# Altium integrated library TI Interface Line Receiver.IntLib: 131 symbols (part 2 of 3)
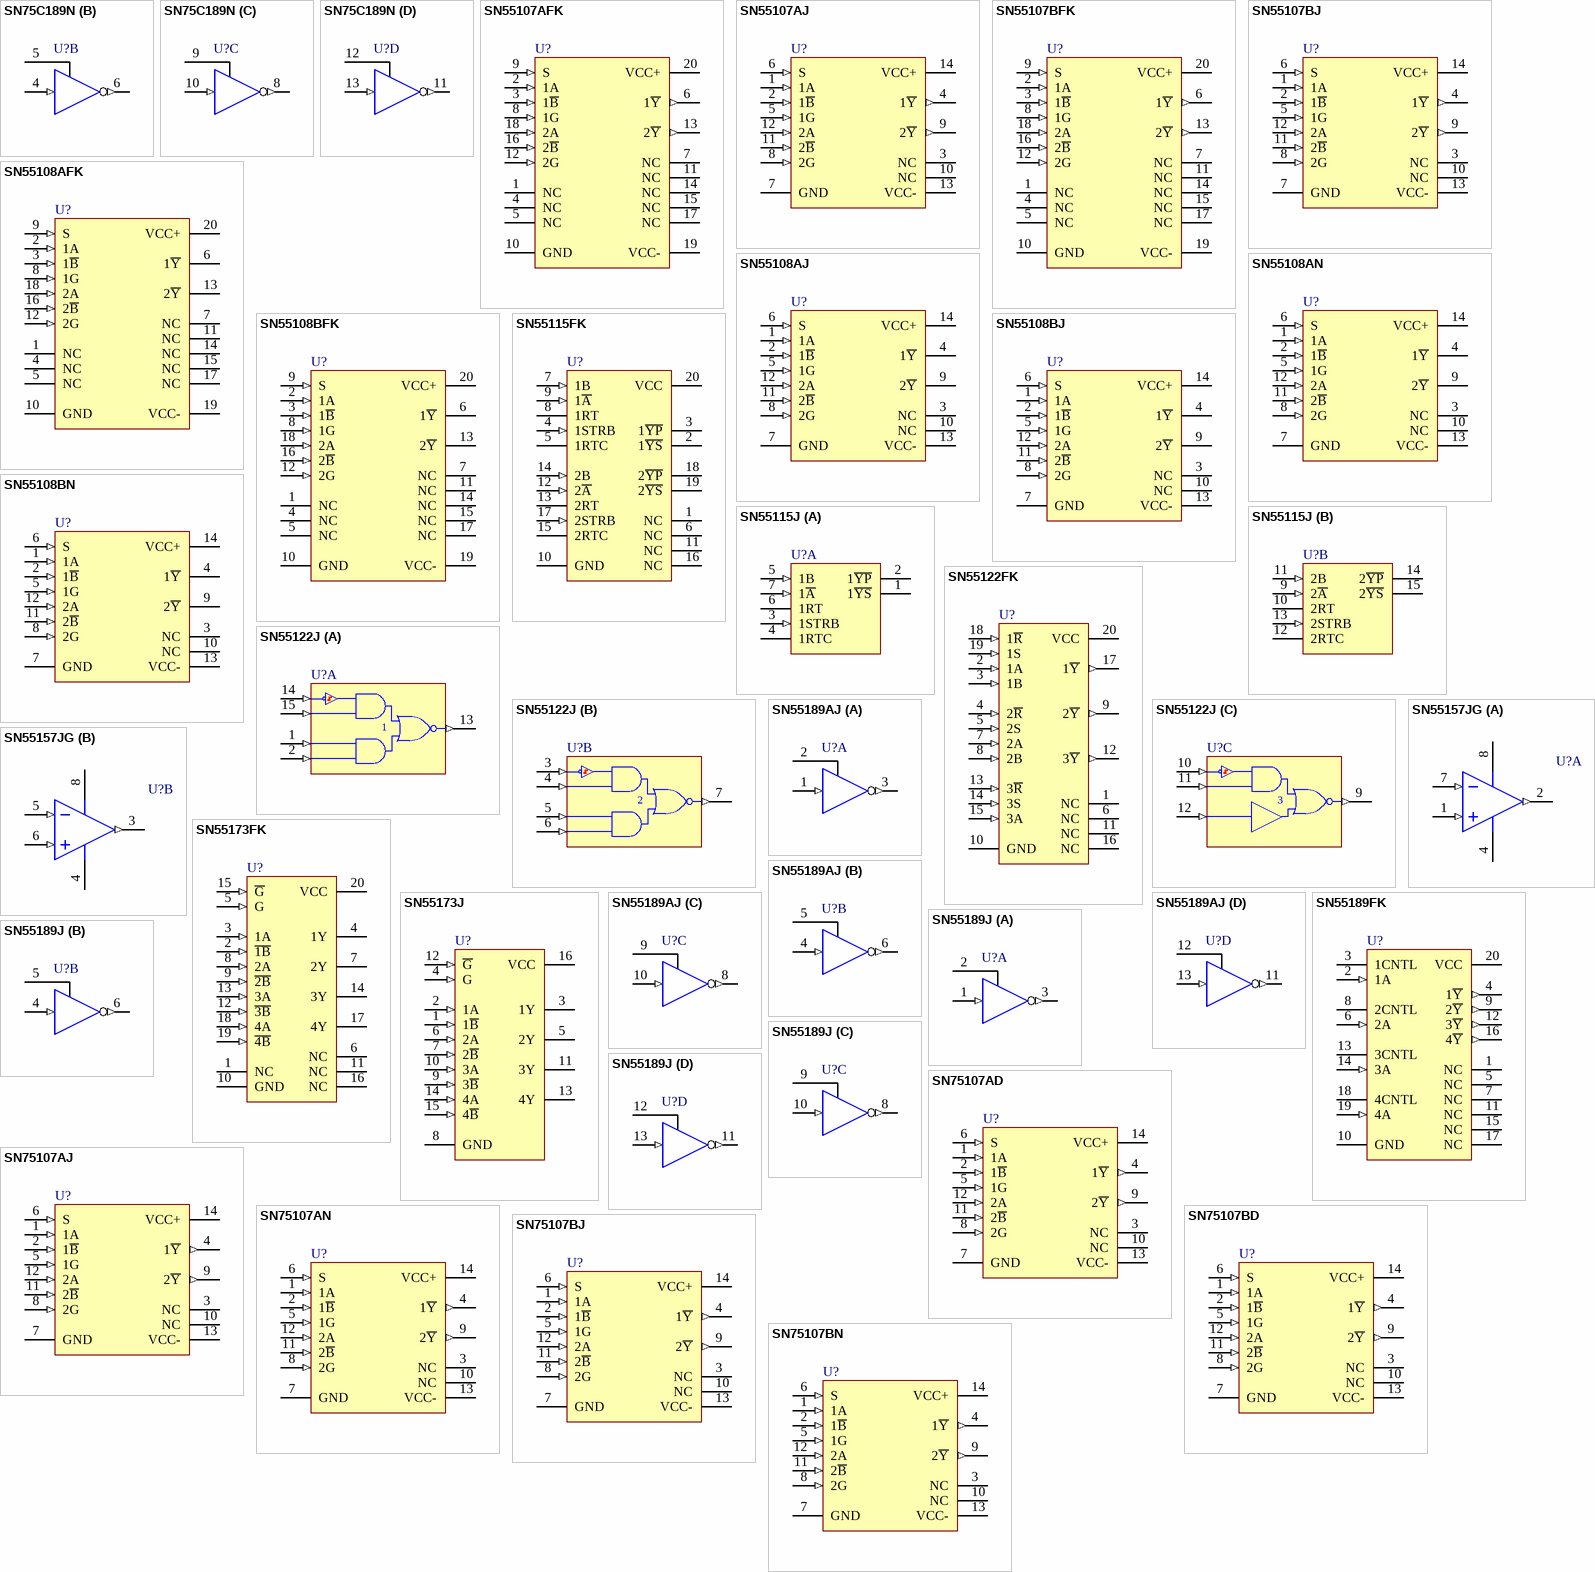
[diagram p7: symbols SN75C189N to SN75107BN]

## SN55108AN
designator U?
Dual Line Receiver; Published: 15-May-2002; LatestRevisionDate: 29-May-2009; LatestRevisionNote: Component Body Added.; DatasheetVersion: May-1990; PackageVersion: Oct-1995; PackageReference: N014; Publisher: Altium Limited; PackageDescription: DIP, 14-Pin, Row Spacing 7.62 mm, Pitch 2.54 mm; ComponentLink1Description: Manufacturer Link; ComponentLink1URL: http://www.ti.com/
footprint N014 (DIP, 14-Leads, Row Spacing 7.62mm, Pitch 2.54mm, Body 19.31x6.35mm)
3D model N014 (DIP, 14-Pin, Row Spacing 7.62 mm, Pitch 2.54 mm)
pins: 1 1A (in), 2 1~{B} (in), 3 NC, 4 1~{Y} (oc), 5 1G (in), 6 S (in), 7 GND (power), 8 2G (in), 9 2~{Y} (oc), 10 NC, 11 2~{B} (in), 12 2A (in), 13 VCC- (power), 14 VCC+ (power)

## SN55108BFK
designator U?
Dual Line Receiver; Published: 15-May-2002; LatestRevisionDate: 29-May-2009; LatestRevisionNote: IPC-7351 Footprint Added.; DatasheetVersion: May-1990; PackageVersion: 1998; PackageReference: FK020; Publisher: Altium Limited; PackageDescription: 20-Pin Leadless Chip Carrier 1.27 mm Pitch; Code_JEDEC: MS-004-CB; ComponentLink1Description: Manufacturer Link; ComponentLink1URL: http://www.ti.com/
footprint FK020_N (Leadless Chip Carrier, 20-Leads, Body 8.9x8.9mm, Pitch 1.27mm, IPC Medium Density)
footprint FK020_L (Leadless Chip Carrier, 20-Leads, Body 8.9x8.9mm, Pitch 1.27mm, IPC High Density)
footprint FK020_M (Leadless Chip Carrier, 20-Leads, Body 8.9x8.9mm, Pitch 1.27mm, IPC Low Density)
pins: 1 NC, 2 1A (in), 3 1~{B} (in), 4 NC, 5 NC, 6 1~{Y} (oc), 7 NC, 8 1G (in), 9 S (in), 10 GND (power), 11 NC, 12 2G (in), 13 2~{Y} (oc), 14 NC, 15 NC, 16 2~{B} (in), 17 NC, 18 2A (in), 19 VCC- (power), 20 VCC+ (power)

## SN55108BJ
designator U?
Dual Line Receiver; Published: 15-May-2002; LatestRevisionDate: 29-May-2009; LatestRevisionNote: Component Body Added.; DatasheetVersion: May-1990; PackageVersion: Jun-1999; PackageReference: J014; Publisher: Altium Limited; PackageDescription: DIP, Ceramic, 14-Pin, Row Spacing 7.62 mm, Pitch 2.54 mm; ComponentLink1Description: Manufacturer Link; ComponentLink1URL: http://www.ti.com/
footprint J014 (DIP, 14-Leads, Row Spacing 7.62mm, Pitch 2.54mm, Body 19.56x6.92mm)
3D model J014 (DIP, Ceramic, 14-Pin, Row Spacing 7.62 mm, Pitch 2.54 mm)
pins: 1 1A (in), 2 1~{B} (in), 3 NC, 4 1~{Y} (oc), 5 1G (in), 6 S (in), 7 GND (power), 8 2G (in), 9 2~{Y} (oc), 10 NC, 11 2~{B} (in), 12 2A (in), 13 VCC- (power), 14 VCC+ (power)

## SN55108BN
designator U?
Dual Line Receiver; Published: 15-May-2002; LatestRevisionDate: 29-May-2009; LatestRevisionNote: Component Body Added.; DatasheetVersion: May-1990; PackageVersion: Oct-1995; PackageReference: N014; Publisher: Altium Limited; PackageDescription: DIP, 14-Pin, Row Spacing 7.62 mm, Pitch 2.54 mm; ComponentLink1Description: Manufacturer Link; ComponentLink1URL: http://www.ti.com/
footprint N014 (DIP, 14-Leads, Row Spacing 7.62mm, Pitch 2.54mm, Body 19.31x6.35mm)
3D model N014 (DIP, 14-Pin, Row Spacing 7.62 mm, Pitch 2.54 mm)
pins: 1 1A (in), 2 1~{B} (in), 3 NC, 4 1~{Y} (oc), 5 1G (in), 6 S (in), 7 GND (power), 8 2G (in), 9 2~{Y} (oc), 10 NC, 11 2~{B} (in), 12 2A (in), 13 VCC- (power), 14 VCC+ (power)

## SN55115FK
designator U?
Dual Differential Line Receivers; Published: 15-May-2002; LatestRevisionDate: 29-May-2009; LatestRevisionNote: IPC-7351 Footprint Added.; DatasheetVersion: Oct-1986; PackageVersion: 1998; PackageReference: FK020; Publisher: Altium Limited; PackageDescription: 20-Pin Leadless Chip Carrier 1.27 mm Pitch; Code_JEDEC: MS-004-CB; ComponentLink1Description: Manufacturer Link; ComponentLink1URL: http://www.ti.com/
footprint FK020_N (Leadless Chip Carrier, 20-Leads, Body 8.9x8.9mm, Pitch 1.27mm, IPC Medium Density)
footprint FK020_L (Leadless Chip Carrier, 20-Leads, Body 8.9x8.9mm, Pitch 1.27mm, IPC High Density)
footprint FK020_M (Leadless Chip Carrier, 20-Leads, Body 8.9x8.9mm, Pitch 1.27mm, IPC Low Density)
pins: 1 NC, 2 1~{YS} (oc), 3 1~{YP} (oe), 4 1STRB (in), 5 1RTC, 6 NC, 7 1B (in), 8 1RT, 9 1~{A} (in), 10 GND (power), 11 NC, 12 2~{A} (in), 13 2RT, 14 2B (in), 15 2RTC, 16 NC, 17 2STRB (in), 18 2~{YP} (oe), 19 2~{YS} (oc), 20 VCC (power)

## SN55115J
designator U?
Dual Differential Line Receivers; Published: 15-May-2002; LatestRevisionDate: 29-May-2009; LatestRevisionNote: Component Body Added.; DatasheetVersion: Oct-1986; PackageVersion: Jun-1999; PackageReference: J016; Publisher: Altium Limited; PackageDescription: DIP, Ceramic, 16-Pin, Row Spacing 7.62 mm, Pitch 2.54 mm; ComponentLink1Description: Manufacturer Link; ComponentLink1URL: http://www.ti.com/; ComponentLink2Description: Datasheet; ComponentLink2URL: http://www-s.ti.com/sc/ds/sn55115.pdf
footprint J016 (DIP, 16-Leads, Row Spacing 7.62mm, Pitch 2.54mm, Body 19.56x6.92mm)
3D model J016 (DIP, Ceramic, 16-Pin, Row Spacing 7.62 mm, Pitch 2.54 mm)
pins on every part: 8 GND (power) hidden to GND, 16 VCC (power) hidden to VCC
part A pins: 1 1~{YS} (oc), 2 1~{YP} (oe), 3 1STRB (in), 4 1RTC, 5 1B (in), 6 1RT, 7 1~{A} (in)
part B pins: 9 2~{A} (in), 10 2RT, 11 2B (in), 12 2RTC, 13 2STRB (in), 14 2~{YP} (oe), 15 2~{YS} (oc)

## SN55122FK
designator U?
Triple Line Receiver; Published: 15-May-2002; LatestRevisionDate: 29-May-2009; LatestRevisionNote: IPC-7351 Footprint Added.; DatasheetVersion: Sep-1986; PackageVersion: 1998; PackageReference: FK020; Publisher: Altium Limited; PackageDescription: 20-Pin Leadless Chip Carrier 1.27 mm Pitch; Code_JEDEC: MS-004-CB; ComponentLink1Description: Manufacturer Link; ComponentLink1URL: http://www.ti.com/
footprint FK020_N (Leadless Chip Carrier, 20-Leads, Body 8.9x8.9mm, Pitch 1.27mm, IPC Medium Density)
footprint FK020_L (Leadless Chip Carrier, 20-Leads, Body 8.9x8.9mm, Pitch 1.27mm, IPC High Density)
footprint FK020_M (Leadless Chip Carrier, 20-Leads, Body 8.9x8.9mm, Pitch 1.27mm, IPC Low Density)
pins: 1 NC, 2 1A (in), 3 1B (in), 4 2~{R} (in), 5 2S (in), 6 NC, 7 2A (in), 8 2B (in), 9 2~{Y} (out), 10 GND (power), 11 NC, 12 3~{Y} (out), 13 3~{R} (in), 14 3S (in), 15 3A (in), 16 NC, 17 1~{Y} (out), 18 1~{R} (in), 19 1S (in), 20 VCC (power)

## SN55122J
designator U?
Triple Line Receiver; ComponentAvailability: Obsolete; Published: 15-May-2002; LatestRevisionDate: 29-May-2009; LatestRevisionNote: Component Body Added.; DatasheetVersion: Sep-1986; PackageVersion: Jun-1999; PackageReference: J016; Publisher: Altium Limited; PackageDescription: DIP, Ceramic, 16-Pin, Row Spacing 7.62 mm, Pitch 2.54 mm; ComponentLink1Description: Manufacturer Link; ComponentLink1URL: http://www.ti.com/; ComponentLink2Description: Datasheet; ComponentLink2URL: http://www-s.ti.com/sc/ds/sn55122.pdf
footprint J016 (DIP, 16-Leads, Row Spacing 7.62mm, Pitch 2.54mm, Body 19.56x6.92mm)
3D model J016 (DIP, Ceramic, 16-Pin, Row Spacing 7.62 mm, Pitch 2.54 mm)
pins on every part: 8 GND (power) hidden to GND, 16 VCC (power) hidden to VCC
part A pins: 1 A (in), 2 B (in), 13 ~{Y} (out), 14 ~{R} (in), 15 S (in)
part B pins: 3 ~{R} (in), 4 S (in), 5 A (in), 6 B (in), 7 ~{Y} (out)
part C pins: 9 ~{Y} (out), 10 ~{R} (in), 11 S (in), 12 A (in)

## SN55157JG
designator U?
Dual Differential Line Receiver; Published: 15-May-2002; LatestRevisionDate: 29-May-2009; LatestRevisionNote: Component Body Added.; DatasheetVersion: Sep-1986; PackageVersion: Jan-1995; PackageReference: JG008; Publisher: Altium Limited; PackageDescription: DIP, Ceramic, 8-Pin, Row Spacing 7.62 mm, Pitch 2.54 mm; ComponentLink1Description: Manufacturer Link; ComponentLink1URL: http://www.ti.com/
footprint JG008 (DIP, 8-Leads, Row Spacing 7.62mm, Pitch 2.54mm, Body 9.58x6.67mm)
3D model JG008 (DIP, Ceramic, 8-Pin, Row Spacing 7.62 mm, Pitch 2.54 mm)
pins on every part: 4 GND (power), 8 VCC (power)
part A pins: 1 IN+ (in), 2 OUT (out), 7 IN- (in)
part B pins: 3 OUT (out), 5 IN- (in), 6 IN+ (in)

## SN55173FK
designator U?
Quadruple Differential Line Driver; Note: Inputs have hysteresis (50mV typical).; Published: 15-May-2002; LatestRevisionDate: 29-May-2009; LatestRevisionNote: IPC-7351 Footprint Added.; DatasheetVersion: Dec-1988; PackageVersion: 1998; PackageReference: FK020; Publisher: Altium Limited; PackageDescription: 20-Pin Leadless Chip Carrier 1.27 mm Pitch; Code_JEDEC: MS-004-CB; ComponentLink1Description: Manufacturer Link; ComponentLink1URL: http://www.ti.com/
footprint FK020_N (Leadless Chip Carrier, 20-Leads, Body 8.9x8.9mm, Pitch 1.27mm, IPC Medium Density)
footprint FK020_L (Leadless Chip Carrier, 20-Leads, Body 8.9x8.9mm, Pitch 1.27mm, IPC High Density)
footprint FK020_M (Leadless Chip Carrier, 20-Leads, Body 8.9x8.9mm, Pitch 1.27mm, IPC Low Density)
pins: 1 NC, 2 ~{1B} (in), 3 1A (in), 4 1Y (hiz), 5 G (in), 6 NC, 7 2Y (hiz), 8 2A (in), 9 ~{2B} (in), 10 GND (power), 11 NC, 12 ~{3B} (in), 13 3A (in), 14 3Y (hiz), 15 ~{G} (in), 16 NC, 17 4Y (hiz), 18 4A (in), 19 ~{4B} (in), 20 VCC (power)

## SN55173J
designator U?
Quadruple Differential Line Driver; Note: Inputs have hysteresis (50mV typical).; Published: 15-May-2002; LatestRevisionDate: 29-May-2009; LatestRevisionNote: Component Body Added.; DatasheetVersion: Dec-1988; PackageVersion: Jun-1999; PackageReference: J016; Publisher: Altium Limited; PackageDescription: DIP, Ceramic, 16-Pin, Row Spacing 7.62 mm, Pitch 2.54 mm; ComponentLink1Description: Manufacturer Link; ComponentLink1URL: http://www.ti.com/; ComponentLink2Description: Datasheet; ComponentLink2URL: http://www-s.ti.com/sc/ds/sn55173.pdf
footprint J016 (DIP, 16-Leads, Row Spacing 7.62mm, Pitch 2.54mm, Body 19.56x6.92mm)
3D model J016 (DIP, Ceramic, 16-Pin, Row Spacing 7.62 mm, Pitch 2.54 mm)
pins: 1 1~{B} (in), 2 1A (in), 3 1Y (hiz), 4 G (in), 5 2Y (hiz), 6 2A (in), 7 2~{B} (in), 8 GND (power), 9 3~{B} (in), 10 3A (in), 11 3Y (hiz), 12 ~{G} (in), 13 4Y (hiz), 14 4A (in), 15 4~{B} (in), 16 VCC (power)

## SN55189AJ
designator U?
Quadruple Line Receiver; Published: 15-May-2002; LatestRevisionDate: 29-May-2009; LatestRevisionNote: Component Body Added.; DatasheetVersion: May-1990; PackageVersion: Jun-1999; PackageReference: J014; Publisher: Altium Limited; PackageDescription: DIP, Ceramic, 14-Pin, Row Spacing 7.62 mm, Pitch 2.54 mm; ComponentLink1Description: Manufacturer Link; ComponentLink1URL: http://www.ti.com/; ComponentLink2Description: Datasheet; ComponentLink2URL: http://www-s.ti.com/sc/ds/sn55189.pdf
footprint J014 (DIP, 14-Leads, Row Spacing 7.62mm, Pitch 2.54mm, Body 19.56x6.92mm)
3D model J014 (DIP, Ceramic, 14-Pin, Row Spacing 7.62 mm, Pitch 2.54 mm)
pins on every part: 7 GND (power) hidden to GND, 14 VCC+ (power) hidden to VCC+
part A pins: 1 A (in), 2 CNTL, 3 ~{Y} (out)
part B pins: 4 A (in), 5 CNTL, 6 ~{Y} (out)
part C pins: 8 ~{Y} (out), 9 CNTL, 10 A (in)
part D pins: 11 ~{Y} (out), 12 CNTL, 13 A (in)

## SN55189FK
designator U?
Quadruple Line Receiver; Note: Inputs have build in Hysteresis (Double Thresholds); Published: 15-May-2002; LatestRevisionDate: 29-May-2009; LatestRevisionNote: IPC-7351 Footprint Added.; DatasheetVersion: May-1990; PackageVersion: 1998; PackageReference: FK020; Publisher: Altium Limited; PackageDescription: 20-Pin Leadless Chip Carrier 1.27 mm Pitch; Code_JEDEC: MS-004-CB; ComponentLink1Description: Manufacturer Link; ComponentLink1URL: http://www.ti.com/
footprint FK020_N (Leadless Chip Carrier, 20-Leads, Body 8.9x8.9mm, Pitch 1.27mm, IPC Medium Density)
footprint FK020_L (Leadless Chip Carrier, 20-Leads, Body 8.9x8.9mm, Pitch 1.27mm, IPC High Density)
footprint FK020_M (Leadless Chip Carrier, 20-Leads, Body 8.9x8.9mm, Pitch 1.27mm, IPC Low Density)
pins: 1 NC, 2 1A (in), 3 1CNTL, 4 1~{Y} (out), 5 NC, 6 2A (in), 7 NC, 8 2CNTL, 9 2~{Y} (out), 10 GND (power), 11 NC, 12 3~{Y} (out), 13 3CNTL, 14 3A (in), 15 NC, 16 4~{Y} (out), 17 NC, 18 4CNTL, 19 4A (in), 20 VCC (power)

## SN55189J
designator U?
Quadruple Line Receiver; ComponentAvailability: Obsolete; Published: 15-May-2002; LatestRevisionDate: 29-May-2009; LatestRevisionNote: Component Body Added.; DatasheetVersion: May-1990; PackageVersion: Jun-1999; PackageReference: J014; Publisher: Altium Limited; PackageDescription: DIP, Ceramic, 14-Pin, Row Spacing 7.62 mm, Pitch 2.54 mm; ComponentLink1Description: Manufacturer Link; ComponentLink1URL: http://www.ti.com/; ComponentLink2Description: Datasheet; ComponentLink2URL: http://www-s.ti.com/sc/ds/sn55189.pdf
footprint J014 (DIP, 14-Leads, Row Spacing 7.62mm, Pitch 2.54mm, Body 19.56x6.92mm)
3D model J014 (DIP, Ceramic, 14-Pin, Row Spacing 7.62 mm, Pitch 2.54 mm)
pins on every part: 7 GND (power) hidden to GND, 14 VCC+ (power) hidden to VCC+
part A pins: 1 A (in), 2 CNTL, 3 ~{Y} (out)
part B pins: 4 A (in), 5 CNTL, 6 ~{Y} (out)
part C pins: 8 ~{Y} (out), 9 CNTL, 10 A (in)
part D pins: 11 ~{Y} (out), 12 CNTL, 13 A (in)

## SN75107AD
designator U?
Dual Line Receiver; Published: 15-May-2002; LatestRevisionDate: 13-Apr-2006; LatestRevisionNote: IPC-7351 Footprint Added.; DatasheetVersion: May-1990; PackageVersion: Nov-2006; PackageReference: D014; Publisher: Altium Limited; PackageDescription: 14-Pin Small Outline Integrated Circuit 1.27 mm Pitch; Code_JEDEC: MS-012-AB; Code_IPC: SOIC127P600-14; ComponentLink1Description: Manufacturer Link; ComponentLink1URL: http://www.ti.com/; ComponentLink2Description: Datasheet; ComponentLink2URL: http://www-s.ti.com/sc/ds/sn55107a.pdf
footprint D014_N (SOIC, 14-Leads, Body 8.7x3.9mm, Pitch 1.27mm, IPC Medium Density)
footprint D014_L (SOIC, 14-Leads, Body 8.7x3.9mm, Pitch 1.27mm, IPC High Density)
footprint D014_M (SOIC, 14-Leads, Body 8.7x3.9mm, Pitch 1.27mm, IPC Low Density)
3D model D014 (14-Pin Small Outline Integrated Circuit 1.27 mm Pitch)
pins: 1 1A (in), 2 1~{B} (in), 3 NC, 4 1~{Y} (out), 5 1G (in), 6 S (in), 7 GND (power), 8 2G (in), 9 2~{Y} (out), 10 NC, 11 2~{B} (in), 12 2A (in), 13 VCC- (power), 14 VCC+ (power)

## SN75107AJ
designator U?
Dual Line Receiver; Published: 15-May-2002; LatestRevisionDate: 29-May-2009; LatestRevisionNote: Component Body Added.; DatasheetVersion: May-1990; PackageVersion: Jun-1999; PackageReference: J014; Publisher: Altium Limited; PackageDescription: DIP, Ceramic, 14-Pin, Row Spacing 7.62 mm, Pitch 2.54 mm; ComponentLink1Description: Manufacturer Link; ComponentLink1URL: http://www.ti.com/
footprint J014 (DIP, 14-Leads, Row Spacing 7.62mm, Pitch 2.54mm, Body 19.56x6.92mm)
3D model J014 (DIP, Ceramic, 14-Pin, Row Spacing 7.62 mm, Pitch 2.54 mm)
pins: 1 1A (in), 2 1~{B} (in), 3 NC, 4 1~{Y} (out), 5 1G (in), 6 S (in), 7 GND (power), 8 2G (in), 9 2~{Y} (out), 10 NC, 11 2~{B} (in), 12 2A (in), 13 VCC- (power), 14 VCC+ (power)

## SN75107AN
designator U?
Dual Line Receiver; Published: 15-May-2002; LatestRevisionDate: 29-May-2009; LatestRevisionNote: Component Body Added.; DatasheetVersion: May-1990; PackageVersion: Oct-1995; PackageReference: N014; Publisher: Altium Limited; PackageDescription: DIP, 14-Pin, Row Spacing 7.62 mm, Pitch 2.54 mm; ComponentLink1Description: Manufacturer Link; ComponentLink1URL: http://www.ti.com/; ComponentLink2Description: Datasheet; ComponentLink2URL: http://www-s.ti.com/sc/ds/sn55107a.pdf
footprint N014 (DIP, 14-Leads, Row Spacing 7.62mm, Pitch 2.54mm, Body 19.31x6.35mm)
3D model N014 (DIP, 14-Pin, Row Spacing 7.62 mm, Pitch 2.54 mm)
pins: 1 1A (in), 2 1~{B} (in), 3 NC, 4 1~{Y} (out), 5 1G (in), 6 S (in), 7 GND (power), 8 2G (in), 9 2~{Y} (out), 10 NC, 11 2~{B} (in), 12 2A (in), 13 VCC- (power), 14 VCC+ (power)

## SN75107BD
designator U?
Dual Line Receiver; Published: 15-May-2002; LatestRevisionDate: 13-Apr-2006; LatestRevisionNote: IPC-7351 Footprint Added.; DatasheetVersion: May-1990; PackageVersion: Nov-2006; PackageReference: D014; Publisher: Altium Limited; PackageDescription: 14-Pin Small Outline Integrated Circuit 1.27 mm Pitch; Code_JEDEC: MS-012-AB; Code_IPC: SOIC127P600-14; ComponentLink1Description: Manufacturer Link; ComponentLink1URL: http://www.ti.com/; ComponentLink2Description: Datasheet; ComponentLink2URL: http://www-s.ti.com/sc/ds/sn55107a.pdf
footprint D014_N (SOIC, 14-Leads, Body 8.7x3.9mm, Pitch 1.27mm, IPC Medium Density)
footprint D014_L (SOIC, 14-Leads, Body 8.7x3.9mm, Pitch 1.27mm, IPC High Density)
footprint D014_M (SOIC, 14-Leads, Body 8.7x3.9mm, Pitch 1.27mm, IPC Low Density)
3D model D014 (14-Pin Small Outline Integrated Circuit 1.27 mm Pitch)
pins: 1 1A (in), 2 1~{B} (in), 3 NC, 4 1~{Y} (out), 5 1G (in), 6 S (in), 7 GND (power), 8 2G (in), 9 2~{Y} (out), 10 NC, 11 2~{B} (in), 12 2A (in), 13 VCC- (power), 14 VCC+ (power)

## SN75107BJ
designator U?
Dual Line Receiver; Published: 15-May-2002; LatestRevisionDate: 29-May-2009; LatestRevisionNote: Component Body Added.; DatasheetVersion: May-1990; PackageVersion: Jun-1999; PackageReference: J014; Publisher: Altium Limited; PackageDescription: DIP, Ceramic, 14-Pin, Row Spacing 7.62 mm, Pitch 2.54 mm; ComponentLink1Description: Manufacturer Link; ComponentLink1URL: http://www.ti.com/
footprint J014 (DIP, 14-Leads, Row Spacing 7.62mm, Pitch 2.54mm, Body 19.56x6.92mm)
3D model J014 (DIP, Ceramic, 14-Pin, Row Spacing 7.62 mm, Pitch 2.54 mm)
pins: 1 1A (in), 2 1~{B} (in), 3 NC, 4 1~{Y} (out), 5 1G (in), 6 S (in), 7 GND (power), 8 2G (in), 9 2~{Y} (out), 10 NC, 11 2~{B} (in), 12 2A (in), 13 VCC- (power), 14 VCC+ (power)

## SN75107BN
designator U?
Dual Line Receiver; Published: 15-May-2002; LatestRevisionDate: 29-May-2009; LatestRevisionNote: Component Body Added.; DatasheetVersion: May-1990; PackageVersion: Oct-1995; PackageReference: N014; Publisher: Altium Limited; PackageDescription: DIP, 14-Pin, Row Spacing 7.62 mm, Pitch 2.54 mm; ComponentLink1Description: Manufacturer Link; ComponentLink1URL: http://www.ti.com/; ComponentLink2Description: Datasheet; ComponentLink2URL: http://www-s.ti.com/sc/ds/sn55107a.pdf
footprint N014 (DIP, 14-Leads, Row Spacing 7.62mm, Pitch 2.54mm, Body 19.31x6.35mm)
3D model N014 (DIP, 14-Pin, Row Spacing 7.62 mm, Pitch 2.54 mm)
pins: 1 1A (in), 2 1~{B} (in), 3 NC, 4 1~{Y} (out), 5 1G (in), 6 S (in), 7 GND (power), 8 2G (in), 9 2~{Y} (out), 10 NC, 11 2~{B} (in), 12 2A (in), 13 VCC- (power), 14 VCC+ (power)

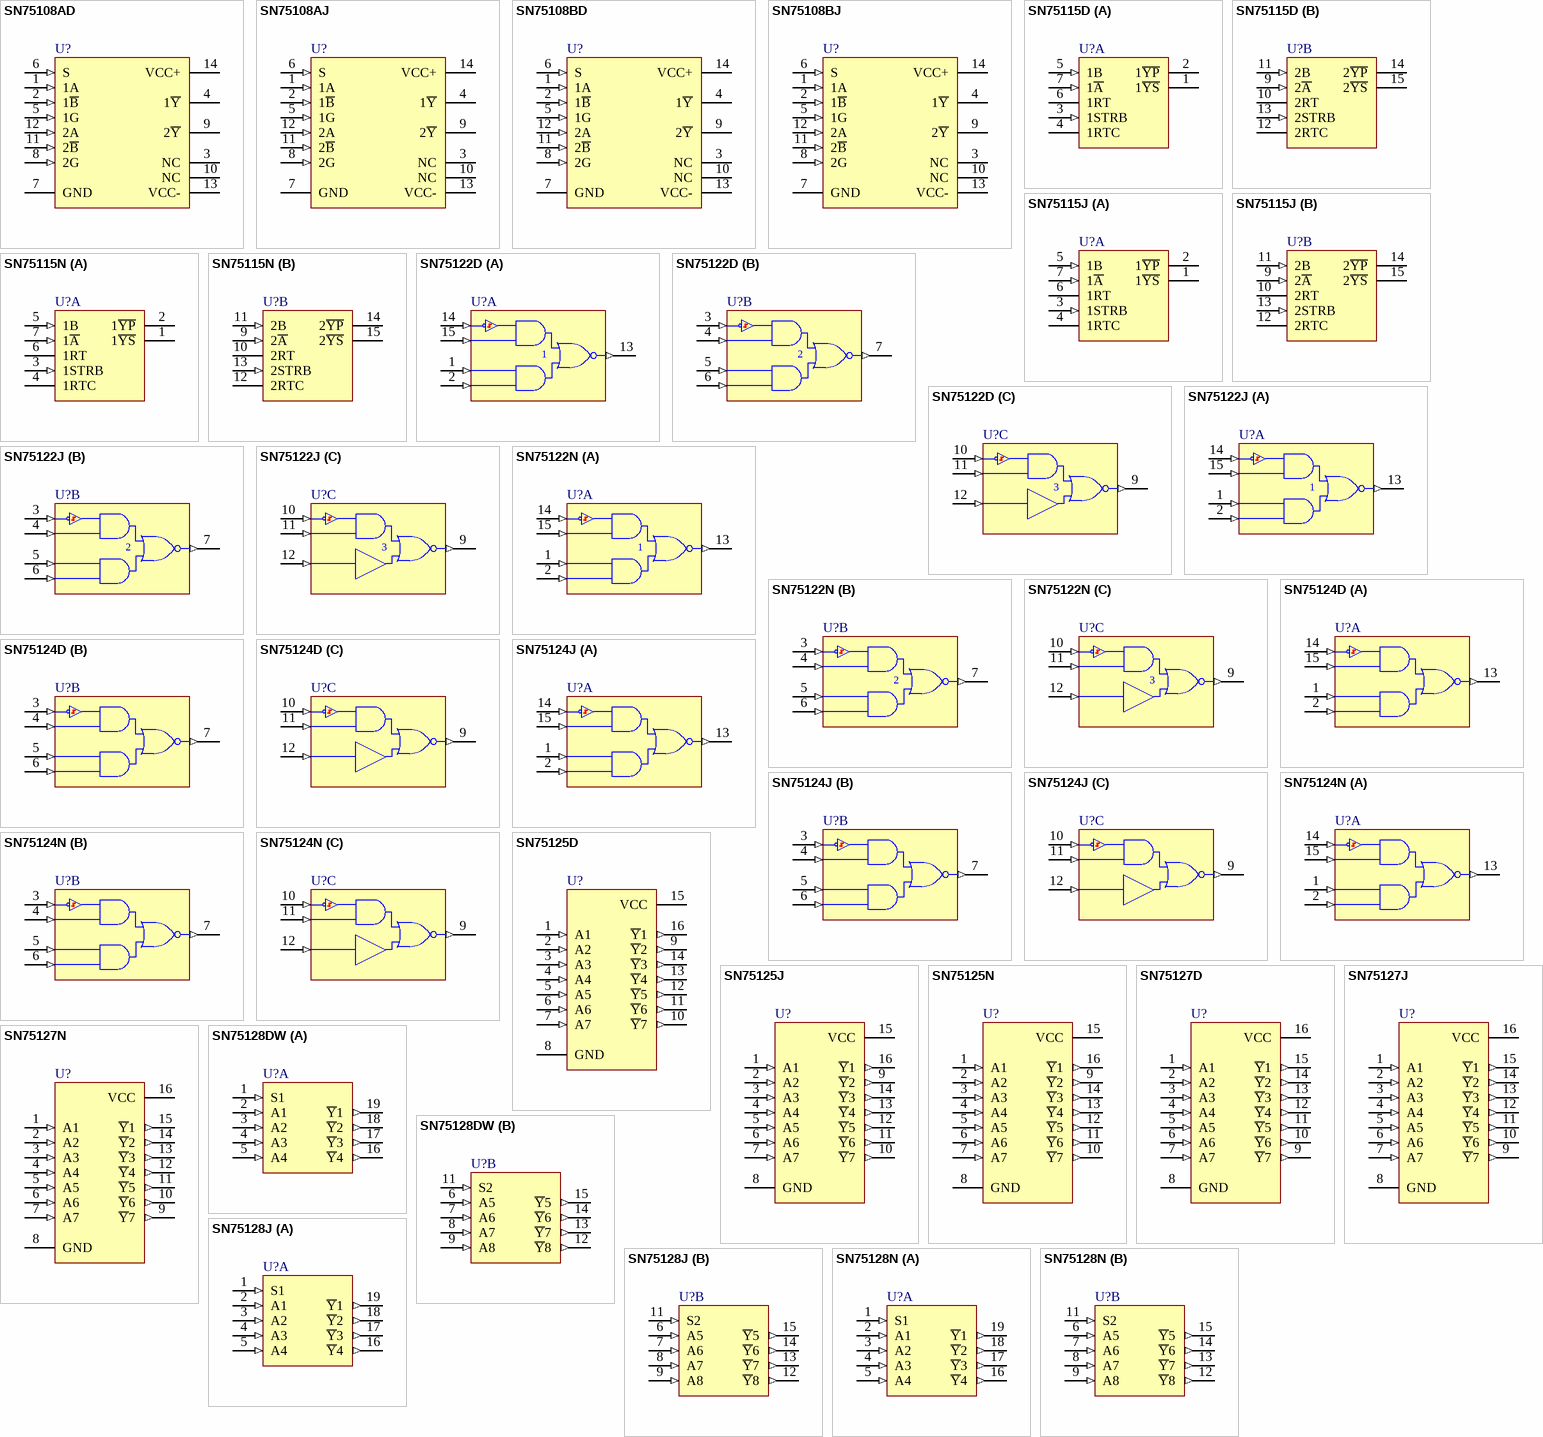
[diagram p3: symbols SN75108AD to SN75128N]

## SN75108AD
designator U?
Dual Line Receiver; Published: 15-May-2002; LatestRevisionDate: 13-Apr-2006; LatestRevisionNote: IPC-7351 Footprint Added.; DatasheetVersion: May-1990; PackageVersion: Nov-2006; PackageReference: D014; Publisher: Altium Limited; PackageDescription: 14-Pin Small Outline Integrated Circuit 1.27 mm Pitch; Code_JEDEC: MS-012-AB; Code_IPC: SOIC127P600-14; ComponentLink1Description: Manufacturer Link; ComponentLink1URL: http://www.ti.com/; ComponentLink2Description: Datasheet; ComponentLink2URL: http://www-s.ti.com/sc/ds/sn55107a.pdf
footprint D014_N (SOIC, 14-Leads, Body 8.7x3.9mm, Pitch 1.27mm, IPC Medium Density)
footprint D014_L (SOIC, 14-Leads, Body 8.7x3.9mm, Pitch 1.27mm, IPC High Density)
footprint D014_M (SOIC, 14-Leads, Body 8.7x3.9mm, Pitch 1.27mm, IPC Low Density)
3D model D014 (14-Pin Small Outline Integrated Circuit 1.27 mm Pitch)
pins: 1 1A (in), 2 1~{B} (in), 3 NC, 4 1~{Y} (oc), 5 1G (in), 6 S (in), 7 GND (power), 8 2G (in), 9 2~{Y} (oc), 10 NC, 11 2~{B} (in), 12 2A (in), 13 VCC- (power), 14 VCC+ (power)

## SN75108AJ
designator U?
Dual Line Receiver; Published: 15-May-2002; LatestRevisionDate: 29-May-2009; LatestRevisionNote: Component Body Added.; DatasheetVersion: May-1990; PackageVersion: Jun-1999; PackageReference: J014; Publisher: Altium Limited; PackageDescription: DIP, Ceramic, 14-Pin, Row Spacing 7.62 mm, Pitch 2.54 mm; ComponentLink1Description: Manufacturer Link; ComponentLink1URL: http://www.ti.com/
footprint J014 (DIP, 14-Leads, Row Spacing 7.62mm, Pitch 2.54mm, Body 19.56x6.92mm)
3D model J014 (DIP, Ceramic, 14-Pin, Row Spacing 7.62 mm, Pitch 2.54 mm)
pins: 1 1A (in), 2 1~{B} (in), 3 NC, 4 1~{Y} (oc), 5 1G (in), 6 S (in), 7 GND (power), 8 2G (in), 9 2~{Y} (oc), 10 NC, 11 2~{B} (in), 12 2A (in), 13 VCC- (power), 14 VCC+ (power)

## SN75108BD
designator U?
Dual Line Receiver; Published: 15-May-2002; LatestRevisionDate: 13-Apr-2006; LatestRevisionNote: IPC-7351 Footprint Added.; DatasheetVersion: May-1990; PackageVersion: Nov-2006; PackageReference: D014; Publisher: Altium Limited; PackageDescription: 14-Pin Small Outline Integrated Circuit 1.27 mm Pitch; Code_JEDEC: MS-012-AB; Code_IPC: SOIC127P600-14; ComponentLink1Description: Manufacturer Link; ComponentLink1URL: http://www.ti.com/
footprint D014_N (SOIC, 14-Leads, Body 8.7x3.9mm, Pitch 1.27mm, IPC Medium Density)
footprint D014_L (SOIC, 14-Leads, Body 8.7x3.9mm, Pitch 1.27mm, IPC High Density)
footprint D014_M (SOIC, 14-Leads, Body 8.7x3.9mm, Pitch 1.27mm, IPC Low Density)
3D model D014 (14-Pin Small Outline Integrated Circuit 1.27 mm Pitch)
pins: 1 1A (in), 2 1~{B} (in), 3 NC, 4 1~{Y} (oc), 5 1G (in), 6 S (in), 7 GND (power), 8 2G (in), 9 2~{Y} (oc), 10 NC, 11 2~{B} (in), 12 2A (in), 13 VCC- (power), 14 VCC+ (power)

## SN75108BJ
designator U?
Dual Line Receiver; Published: 15-May-2002; LatestRevisionDate: 29-May-2009; LatestRevisionNote: Component Body Added.; DatasheetVersion: May-1990; PackageVersion: Jun-1999; PackageReference: J014; Publisher: Altium Limited; PackageDescription: DIP, Ceramic, 14-Pin, Row Spacing 7.62 mm, Pitch 2.54 mm; ComponentLink1Description: Manufacturer Link; ComponentLink1URL: http://www.ti.com/
footprint J014 (DIP, 14-Leads, Row Spacing 7.62mm, Pitch 2.54mm, Body 19.56x6.92mm)
3D model J014 (DIP, Ceramic, 14-Pin, Row Spacing 7.62 mm, Pitch 2.54 mm)
pins: 1 1A (in), 2 1~{B} (in), 3 NC, 4 1~{Y} (oc), 5 1G (in), 6 S (in), 7 GND (power), 8 2G (in), 9 2~{Y} (oc), 10 NC, 11 2~{B} (in), 12 2A (in), 13 VCC- (power), 14 VCC+ (power)

## SN75115D
designator U?
Dual Differential Line Receivers; Published: 15-May-2002; LatestRevisionDate: 13-Apr-2006; LatestRevisionNote: IPC-7351 Footprint Added.; DatasheetVersion: Oct-1986; PackageVersion: Jan-1998; PackageReference: D016; Publisher: Altium Limited; PackageDescription: 16-Pin Small Outline Integrated Circuit 1.27 mm Pitch; Code_IPC: SOIC127P600-16; ComponentLink1Description: Manufacturer Link; ComponentLink1URL: http://www.ti.com/; ComponentLink2Description: Datasheet; ComponentLink2URL: http://www-s.ti.com/sc/ds/sn55115.pdf
footprint D016_N (SOIC, 16-Leads, Body 9.9x3.9mm, Pitch 1.27mm, IPC Medium Density)
footprint D016_L (SOIC, 16-Leads, Body 9.9x3.9mm, Pitch 1.27mm, IPC High Density)
footprint D016_M (SOIC, 16-Leads, Body 9.9x3.9mm, Pitch 1.27mm, IPC Low Density)
3D model D016 (16-Pin Small Outline Integrated Circuit 1.27 mm Pitch)
pins on every part: 8 GND (power) hidden to GND, 16 VCC (power) hidden to VCC
part A pins: 1 1~{YS} (oc), 2 1~{YP} (oe), 3 1STRB (in), 4 1RTC, 5 1B (in), 6 1RT, 7 1~{A} (in)
part B pins: 9 2~{A} (in), 10 2RT, 11 2B (in), 12 2RTC, 13 2STRB (in), 14 2~{YP} (oe), 15 2~{YS} (oc)

## SN75115J
designator U?
Dual Differential Line Receivers; Published: 15-May-2002; LatestRevisionDate: 29-May-2009; LatestRevisionNote: Component Body Added.; DatasheetVersion: Oct-1986; PackageVersion: Jun-1999; PackageReference: J016; Publisher: Altium Limited; PackageDescription: DIP, Ceramic, 16-Pin, Row Spacing 7.62 mm, Pitch 2.54 mm; ComponentLink1Description: Manufacturer Link; ComponentLink1URL: http://www.ti.com/
footprint J016 (DIP, 16-Leads, Row Spacing 7.62mm, Pitch 2.54mm, Body 19.56x6.92mm)
3D model J016 (DIP, Ceramic, 16-Pin, Row Spacing 7.62 mm, Pitch 2.54 mm)
pins on every part: 8 GND (power) hidden to GND, 16 VCC (power) hidden to VCC
part A pins: 1 1~{YS} (oc), 2 1~{YP} (oe), 3 1STRB (in), 4 1RTC, 5 1B (in), 6 1RT, 7 1~{A} (in)
part B pins: 9 2~{A} (in), 10 2RT, 11 2B (in), 12 2RTC, 13 2STRB (in), 14 2~{YP} (oe), 15 2~{YS} (oc)

## SN75115N
designator U?
Dual Differential Line Receivers; Published: 15-May-2002; LatestRevisionDate: 29-May-2009; LatestRevisionNote: Component Body Added.; DatasheetVersion: Oct-1986; PackageVersion: Oct-1995; PackageReference: N016; Publisher: Altium Limited; PackageDescription: DIP, 16-Pin, Row Spacing 7.62 mm, Pitch 2.54 mm; Code_JEDEC: MS-001-BB; ComponentLink1Description: Manufacturer Link; ComponentLink1URL: http://www.ti.com/; ComponentLink2Description: Datasheet; ComponentLink2URL: http://www-s.ti.com/sc/ds/sn55115.pdf
footprint N016 (DIP, 16-Leads, Row Spacing 7.62mm, Pitch 2.54mm, Body 19.31x6.35mm)
3D model N016 (DIP, 16-Pin, Row Spacing 7.62 mm, Pitch 2.54 mm)
pins on every part: 8 GND (power) hidden to GND, 16 VCC (power) hidden to VCC
part A pins: 1 1~{YS} (oc), 2 1~{YP} (oe), 3 1STRB (in), 4 1RTC, 5 1B (in), 6 1RT, 7 1~{A} (in)
part B pins: 9 2~{A} (in), 10 2RT, 11 2B (in), 12 2RTC, 13 2STRB (in), 14 2~{YP} (oe), 15 2~{YS} (oc)

## SN75122D
designator U?
Triple Line Receiver; ComponentAvailability: Obsolete; Published: 15-May-2002; LatestRevisionDate: 13-Apr-2006; LatestRevisionNote: IPC-7351 Footprint Added.; DatasheetVersion: Sep-1986; PackageVersion: Jan-1998; PackageReference: D016; Publisher: Altium Limited; PackageDescription: 16-Pin Small Outline Integrated Circuit 1.27 mm Pitch; Code_IPC: SOIC127P600-16; ComponentLink1Description: Manufacturer Link; ComponentLink1URL: http://www.ti.com/; ComponentLink2Description: Datasheet; ComponentLink2URL: http://www-s.ti.com/sc/ds/sn55122.pdf
footprint D016_N (SOIC, 16-Leads, Body 9.9x3.9mm, Pitch 1.27mm, IPC Medium Density)
footprint D016_L (SOIC, 16-Leads, Body 9.9x3.9mm, Pitch 1.27mm, IPC High Density)
footprint D016_M (SOIC, 16-Leads, Body 9.9x3.9mm, Pitch 1.27mm, IPC Low Density)
3D model D016 (16-Pin Small Outline Integrated Circuit 1.27 mm Pitch)
pins on every part: 8 GND (power) hidden to GND, 16 VCC (power) hidden to VCC
part A pins: 1 A (in), 2 B (in), 13 ~{Y} (out), 14 ~{R} (in), 15 S (in)
part B pins: 3 ~{R} (in), 4 S (in), 5 A (in), 6 B (in), 7 ~{Y} (out)
part C pins: 9 ~{Y} (out), 10 ~{R} (in), 11 S (in), 12 A (in)

## SN75122J
designator U?
Triple Line Receiver; Published: 15-May-2002; LatestRevisionDate: 29-May-2009; LatestRevisionNote: Component Body Added.; DatasheetVersion: Sep-1986; PackageVersion: Jun-1999; PackageReference: J016; Publisher: Altium Limited; PackageDescription: DIP, Ceramic, 16-Pin, Row Spacing 7.62 mm, Pitch 2.54 mm; ComponentLink1Description: Manufacturer Link; ComponentLink1URL: http://www.ti.com/
footprint J016 (DIP, 16-Leads, Row Spacing 7.62mm, Pitch 2.54mm, Body 19.56x6.92mm)
3D model J016 (DIP, Ceramic, 16-Pin, Row Spacing 7.62 mm, Pitch 2.54 mm)
pins on every part: 8 GND (power) hidden to GND, 16 VCC (power) hidden to VCC
part A pins: 1 A (in), 2 B (in), 13 ~{Y} (out), 14 ~{R} (in), 15 S (in)
part B pins: 3 ~{R} (in), 4 S (in), 5 A (in), 6 B (in), 7 ~{Y} (out)
part C pins: 9 ~{Y} (out), 10 ~{R} (in), 11 S (in), 12 A (in)

## SN75122N
designator U?
Triple Line Receiver; ComponentAvailability: Obsolete; Published: 15-May-2002; LatestRevisionDate: 29-May-2009; LatestRevisionNote: Component Body Added.; DatasheetVersion: Sep-1986; PackageVersion: Oct-1995; PackageReference: N016; Publisher: Altium Limited; PackageDescription: DIP, 16-Pin, Row Spacing 7.62 mm, Pitch 2.54 mm; Code_JEDEC: MS-001-BB; ComponentLink1Description: Manufacturer Link; ComponentLink1URL: http://www.ti.com/; ComponentLink2Description: Datasheet; ComponentLink2URL: http://www-s.ti.com/sc/ds/sn55122.pdf
footprint N016 (DIP, 16-Leads, Row Spacing 7.62mm, Pitch 2.54mm, Body 19.31x6.35mm)
3D model N016 (DIP, 16-Pin, Row Spacing 7.62 mm, Pitch 2.54 mm)
pins on every part: 8 GND (power) hidden to GND, 16 VCC (power) hidden to VCC
part A pins: 1 A (in), 2 B (in), 13 ~{Y} (out), 14 ~{R} (in), 15 S (in)
part B pins: 3 ~{R} (in), 4 S (in), 5 A (in), 6 B (in), 7 ~{Y} (out)
part C pins: 9 ~{Y} (out), 10 ~{R} (in), 11 S (in), 12 A (in)

## SN75124D
designator U?
Triple Line Receiver; ComponentAvailability: Obsolete; Published: 15-May-2002; LatestRevisionDate: 13-Apr-2006; LatestRevisionNote: IPC-7351 Footprint Added.; DatasheetVersion: Sep-1989; PackageVersion: Jan-1998; PackageReference: D016; Publisher: Altium Limited; PackageDescription: 16-Pin Small Outline Integrated Circuit 1.27 mm Pitch; Code_IPC: SOIC127P600-16; ComponentLink1Description: Manufacturer Link; ComponentLink1URL: http://www.ti.com/; ComponentLink2Description: Datasheet; ComponentLink2URL: http://www-s.ti.com/sc/ds/sn75124.pdf
footprint D016_N (SOIC, 16-Leads, Body 9.9x3.9mm, Pitch 1.27mm, IPC Medium Density)
footprint D016_L (SOIC, 16-Leads, Body 9.9x3.9mm, Pitch 1.27mm, IPC High Density)
footprint D016_M (SOIC, 16-Leads, Body 9.9x3.9mm, Pitch 1.27mm, IPC Low Density)
3D model D016 (16-Pin Small Outline Integrated Circuit 1.27 mm Pitch)
pins on every part: 8 GND (power) hidden to GND, 16 VCC (power) hidden to VCC
part A pins: 1 1A (in), 2 1B (in), 13 1~{Y} (out), 14 1~{R} (in), 15 1S (in)
part B pins: 3 2~{R} (in), 4 2S (in), 5 2A (in), 6 2B (in), 7 2~{Y} (out)
part C pins: 9 3~{Y} (out), 10 3~{R} (in), 11 3S (in), 12 3A (in)

## SN75124J
designator U?
Triple Line Receiver; Published: 15-May-2002; LatestRevisionDate: 29-May-2009; LatestRevisionNote: Component Body Added.; DatasheetVersion: Sep-1989; PackageVersion: Jun-1999; PackageReference: J016; Publisher: Altium Limited; PackageDescription: DIP, Ceramic, 16-Pin, Row Spacing 7.62 mm, Pitch 2.54 mm; ComponentLink1Description: Manufacturer Link; ComponentLink1URL: http://www.ti.com/
footprint J016 (DIP, 16-Leads, Row Spacing 7.62mm, Pitch 2.54mm, Body 19.56x6.92mm)
3D model J016 (DIP, Ceramic, 16-Pin, Row Spacing 7.62 mm, Pitch 2.54 mm)
pins on every part: 8 GND (power) hidden to GND, 16 VCC (power) hidden to VCC
part A pins: 1 1A (in), 2 1B (in), 13 1~{Y} (out), 14 1~{R} (in), 15 1S (in)
part B pins: 3 2~{R} (in), 4 2S (in), 5 2A (in), 6 2B (in), 7 2~{Y} (out)
part C pins: 9 3~{Y} (out), 10 3~{R} (in), 11 3S (in), 12 3A (in)

## SN75124N
designator U?
Triple Line Receiver; Published: 15-May-2002; LatestRevisionDate: 29-May-2009; LatestRevisionNote: Component Body Added.; DatasheetVersion: Sep-1989; PackageVersion: Oct-1995; PackageReference: N016; Publisher: Altium Limited; PackageDescription: DIP, 16-Pin, Row Spacing 7.62 mm, Pitch 2.54 mm; Code_JEDEC: MS-001-BB; ComponentLink1Description: Manufacturer Link; ComponentLink1URL: http://www.ti.com/; ComponentLink2Description: Datasheet; ComponentLink2URL: http://www-s.ti.com/sc/ds/sn75124.pdf
footprint N016 (DIP, 16-Leads, Row Spacing 7.62mm, Pitch 2.54mm, Body 19.31x6.35mm)
3D model N016 (DIP, 16-Pin, Row Spacing 7.62 mm, Pitch 2.54 mm)
pins on every part: 8 GND (power) hidden to GND, 16 VCC (power) hidden to VCC
part A pins: 1 1A (in), 2 1B (in), 13 1~{Y} (out), 14 1~{R} (in), 15 1S (in)
part B pins: 3 2~{R} (in), 4 2S (in), 5 2A (in), 6 2B (in), 7 2~{Y} (out)
part C pins: 9 3~{Y} (out), 10 3~{R} (in), 11 3S (in), 12 3A (in)

## SN75125D
designator U?
Seven-Channel Line Receiver; ComponentAvailability: Not For New Design; Published: 15-May-2002; LatestRevisionDate: 13-Apr-2006; LatestRevisionNote: IPC-7351 Footprint Added.; DatasheetVersion: Sep-1986; PackageVersion: Jan-1998; PackageReference: D016; Publisher: Altium Limited; PackageDescription: 16-Pin Small Outline Integrated Circuit 1.27 mm Pitch; Code_IPC: SOIC127P600-16; ComponentLink1Description: Manufacturer Link; ComponentLink1URL: http://www.ti.com/; ComponentLink2Description: Datasheet; ComponentLink2URL: http://www-s.ti.com/sc/ds/sn75127.pdf
footprint D016_N (SOIC, 16-Leads, Body 9.9x3.9mm, Pitch 1.27mm, IPC Medium Density)
footprint D016_L (SOIC, 16-Leads, Body 9.9x3.9mm, Pitch 1.27mm, IPC High Density)
footprint D016_M (SOIC, 16-Leads, Body 9.9x3.9mm, Pitch 1.27mm, IPC Low Density)
3D model D016 (16-Pin Small Outline Integrated Circuit 1.27 mm Pitch)
pins: 1 A1 (in), 2 A2 (in), 3 A3 (in), 4 A4 (in), 5 A5 (in), 6 A6 (in), 7 A7 (in), 8 GND (power), 9 ~{Y}2 (out), 10 ~{Y}7 (out), 11 ~{Y}6 (out), 12 ~{Y}5 (out), 13 ~{Y}4 (out), 14 ~{Y}3 (out), 15 VCC (power), 16 ~{Y}1 (out)

## SN75125J
designator U?
Seven-Channel Line Receiver; Published: 15-May-2002; LatestRevisionDate: 29-May-2009; LatestRevisionNote: Component Body Added.; DatasheetVersion: Sep-1986; PackageVersion: Jun-1999; PackageReference: J016; Publisher: Altium Limited; PackageDescription: DIP, Ceramic, 16-Pin, Row Spacing 7.62 mm, Pitch 2.54 mm; ComponentLink1Description: Manufacturer Link; ComponentLink1URL: http://www.ti.com/
footprint J016 (DIP, 16-Leads, Row Spacing 7.62mm, Pitch 2.54mm, Body 19.56x6.92mm)
3D model J016 (DIP, Ceramic, 16-Pin, Row Spacing 7.62 mm, Pitch 2.54 mm)
pins: 1 A1 (in), 2 A2 (in), 3 A3 (in), 4 A4 (in), 5 A5 (in), 6 A6 (in), 7 A7 (in), 8 GND (power), 9 ~{Y}2 (out), 10 ~{Y}7 (out), 11 ~{Y}6 (out), 12 ~{Y}5 (out), 13 ~{Y}4 (out), 14 ~{Y}3 (out), 15 VCC (power), 16 ~{Y}1 (out)

## SN75125N
designator U?
Seven-Channel Line Receiver; ComponentAvailability: Not For New Design; Published: 15-May-2002; LatestRevisionDate: 29-May-2009; LatestRevisionNote: Component Body Added.; DatasheetVersion: Sep-1986; PackageVersion: Oct-1995; PackageReference: N016; Publisher: Altium Limited; PackageDescription: DIP, 16-Pin, Row Spacing 7.62 mm, Pitch 2.54 mm; Code_JEDEC: MS-001-BB; ComponentLink1Description: Manufacturer Link; ComponentLink1URL: http://www.ti.com/; ComponentLink2Description: Datasheet; ComponentLink2URL: http://www-s.ti.com/sc/ds/sn75127.pdf
footprint N016 (DIP, 16-Leads, Row Spacing 7.62mm, Pitch 2.54mm, Body 19.31x6.35mm)
3D model N016 (DIP, 16-Pin, Row Spacing 7.62 mm, Pitch 2.54 mm)
pins: 1 A1 (in), 2 A2 (in), 3 A3 (in), 4 A4 (in), 5 A5 (in), 6 A6 (in), 7 A7 (in), 8 GND (power), 9 ~{Y}2 (out), 10 ~{Y}7 (out), 11 ~{Y}6 (out), 12 ~{Y}5 (out), 13 ~{Y}4 (out), 14 ~{Y}3 (out), 15 VCC (power), 16 ~{Y}1 (out)

## SN75127D
designator U?
Seven-Channel Line Receiver; Published: 15-May-2002; LatestRevisionDate: 13-Apr-2006; LatestRevisionNote: IPC-7351 Footprint Added.; DatasheetVersion: Sep-1986; PackageVersion: Jan-1998; PackageReference: D016; Publisher: Altium Limited; PackageDescription: 16-Pin Small Outline Integrated Circuit 1.27 mm Pitch; Code_IPC: SOIC127P600-16; ComponentLink1Description: Manufacturer Link; ComponentLink1URL: http://www.ti.com/; ComponentLink2Description: Datasheet; ComponentLink2URL: http://www-s.ti.com/sc/ds/sn75127.pdf
footprint D016_N (SOIC, 16-Leads, Body 9.9x3.9mm, Pitch 1.27mm, IPC Medium Density)
footprint D016_L (SOIC, 16-Leads, Body 9.9x3.9mm, Pitch 1.27mm, IPC High Density)
footprint D016_M (SOIC, 16-Leads, Body 9.9x3.9mm, Pitch 1.27mm, IPC Low Density)
3D model D016 (16-Pin Small Outline Integrated Circuit 1.27 mm Pitch)
pins: 1 A1 (in), 2 A2 (in), 3 A3 (in), 4 A4 (in), 5 A5 (in), 6 A6 (in), 7 A7 (in), 8 GND (power), 9 ~{Y}7 (out), 10 ~{Y}6 (out), 11 ~{Y}5 (out), 12 ~{Y}4 (out), 13 ~{Y}3 (out), 14 ~{Y}2 (out), 15 ~{Y}1 (out), 16 VCC (power)

## SN75127J
designator U?
Seven-Channel Line Receiver; Published: 15-May-2002; LatestRevisionDate: 29-May-2009; LatestRevisionNote: Component Body Added.; DatasheetVersion: Sep-1986; PackageVersion: Jun-1999; PackageReference: J016; Publisher: Altium Limited; PackageDescription: DIP, Ceramic, 16-Pin, Row Spacing 7.62 mm, Pitch 2.54 mm; ComponentLink1Description: Manufacturer Link; ComponentLink1URL: http://www.ti.com/
footprint J016 (DIP, 16-Leads, Row Spacing 7.62mm, Pitch 2.54mm, Body 19.56x6.92mm)
3D model J016 (DIP, Ceramic, 16-Pin, Row Spacing 7.62 mm, Pitch 2.54 mm)
pins: 1 A1 (in), 2 A2 (in), 3 A3 (in), 4 A4 (in), 5 A5 (in), 6 A6 (in), 7 A7 (in), 8 GND (power), 9 ~{Y}7 (out), 10 ~{Y}6 (out), 11 ~{Y}5 (out), 12 ~{Y}4 (out), 13 ~{Y}3 (out), 14 ~{Y}2 (out), 15 ~{Y}1 (out), 16 VCC (power)

## SN75127N
designator U?
Seven-Channel Line Receiver; ComponentAvailability: Obsolete; Published: 15-May-2002; LatestRevisionDate: 29-May-2009; LatestRevisionNote: Component Body Added.; DatasheetVersion: Sep-1986; PackageVersion: Oct-1995; PackageReference: N016; Publisher: Altium Limited; PackageDescription: DIP, 16-Pin, Row Spacing 7.62 mm, Pitch 2.54 mm; Code_JEDEC: MS-001-BB; ComponentLink1Description: Manufacturer Link; ComponentLink1URL: http://www.ti.com/; ComponentLink2Description: Datasheet; ComponentLink2URL: http://www-s.ti.com/sc/ds/sn75127.pdf
footprint N016 (DIP, 16-Leads, Row Spacing 7.62mm, Pitch 2.54mm, Body 19.31x6.35mm)
3D model N016 (DIP, 16-Pin, Row Spacing 7.62 mm, Pitch 2.54 mm)
pins: 1 A1 (in), 2 A2 (in), 3 A3 (in), 4 A4 (in), 5 A5 (in), 6 A6 (in), 7 A7 (in), 8 GND (power), 9 ~{Y}7 (out), 10 ~{Y}6 (out), 11 ~{Y}5 (out), 12 ~{Y}4 (out), 13 ~{Y}3 (out), 14 ~{Y}2 (out), 15 ~{Y}1 (out), 16 VCC (power)

## SN75128DW
designator U?
Eight-Channel Line Receiver; Published: 15-May-2002; LatestRevisionDate: 13-Apr-2006; LatestRevisionNote: IPC-7351 Footprint Added.; DatasheetVersion: Sep-1986; PackageVersion: Mar-2000; PackageReference: DW020; Publisher: Altium Limited; PackageDescription: 20-Pin Plastic Small Outline Integrated Circuit 1.27 mm Pitch; Code_JEDEC: MS-013; Code_IPC: SOIC127P1030-20; ComponentLink1Description: Manufacturer Link; ComponentLink1URL: http://www.ti.com/; ComponentLink2Description: Datasheet; ComponentLink2URL: http://www-s.ti.com/sc/ds/sn75128.pdf
footprint DW020_N (SOIC, 20-Leads, Body 12.8x7.5mm, Pitch 1.27mm, IPC Medium Density)
footprint DW020_L (SOIC, 20-Leads, Body 12.8x7.5mm, Pitch 1.27mm, IPC High Density)
footprint DW020_M (SOIC, 20-Leads, Body 12.8x7.5mm, Pitch 1.27mm, IPC Low Density)
3D model DW020 (20-Pin Plastic Small Outline Integrated Circuit 1.27 mm Pitch)
pins on every part: 10 GND (power) hidden to GND, 20 VCC (power) hidden to VCC
part A pins: 1 S1 (in), 2 A1 (in), 3 A2 (in), 4 A3 (in), 5 A4 (in), 16 ~{Y}4 (out), 17 ~{Y}3 (out), 18 ~{Y}2 (out), 19 ~{Y}1 (out)
part B pins: 6 A5 (in), 7 A6 (in), 8 A7 (in), 9 A8 (in), 11 S2 (in), 12 ~{Y}8 (out), 13 ~{Y}7 (out), 14 ~{Y}6 (out), 15 ~{Y}5 (out)

## SN75128J
designator U?
Eight-Channel Line Receiver; Published: 15-May-2002; LatestRevisionDate: 29-May-2009; LatestRevisionNote: Component Body Added.; DatasheetVersion: Sep-1986; PackageVersion: Jun-1999; PackageReference: J020; Publisher: Altium Limited; PackageDescription: DIP, Ceramic, 20-Pin, Row Spacing 7.62 mm, Pitch 2.54 mm; ComponentLink1Description: Manufacturer Link; ComponentLink1URL: http://www.ti.com/
footprint J020 (DIP, 20-Leads, Row Spacing 7.62mm, Pitch 2.54mm, Body 24.2x6.92mm)
3D model J020 (DIP, Ceramic, 20-Pin, Row Spacing 7.62 mm, Pitch 2.54 mm)
pins on every part: 10 GND (power) hidden to GND, 20 VCC (power) hidden to VCC
part A pins: 1 S1 (in), 2 A1 (in), 3 A2 (in), 4 A3 (in), 5 A4 (in), 16 ~{Y}4 (out), 17 ~{Y}3 (out), 18 ~{Y}2 (out), 19 ~{Y}1 (out)
part B pins: 6 A5 (in), 7 A6 (in), 8 A7 (in), 9 A8 (in), 11 S2 (in), 12 ~{Y}8 (out), 13 ~{Y}7 (out), 14 ~{Y}6 (out), 15 ~{Y}5 (out)

## SN75128N
designator U?
Eight-Channel Line Receiver; ComponentAvailability: Obsolete; Published: 15-May-2002; LatestRevisionDate: 29-May-2009; LatestRevisionNote: Component Body Added.; DatasheetVersion: Sep-1986; PackageVersion: Oct-1995; PackageReference: N020; Publisher: Altium Limited; PackageDescription: DIP, 20-Pin, Row Spacing 7.62 mm, Pitch 2.54 mm; ComponentLink1Description: Manufacturer Link; ComponentLink1URL: http://www.ti.com/; ComponentLink2Description: Datasheet; ComponentLink2URL: http://www-s.ti.com/sc/ds/sn75128.pdf
footprint N020 (DIP, 20-Leads, Row Spacing 7.62mm, Pitch 2.54mm, Body 24.33x6.35mm)
3D model J020 (DIP, 20-Pin, Row Spacing 7.62 mm, Pitch 2.54 mm)
pins on every part: 10 GND (power) hidden to GND, 20 VCC (power) hidden to VCC
part A pins: 1 S1 (in), 2 A1 (in), 3 A2 (in), 4 A3 (in), 5 A4 (in), 16 ~{Y}4 (out), 17 ~{Y}3 (out), 18 ~{Y}2 (out), 19 ~{Y}1 (out)
part B pins: 6 A5 (in), 7 A6 (in), 8 A7 (in), 9 A8 (in), 11 S2 (in), 12 ~{Y}8 (out), 13 ~{Y}7 (out), 14 ~{Y}6 (out), 15 ~{Y}5 (out)

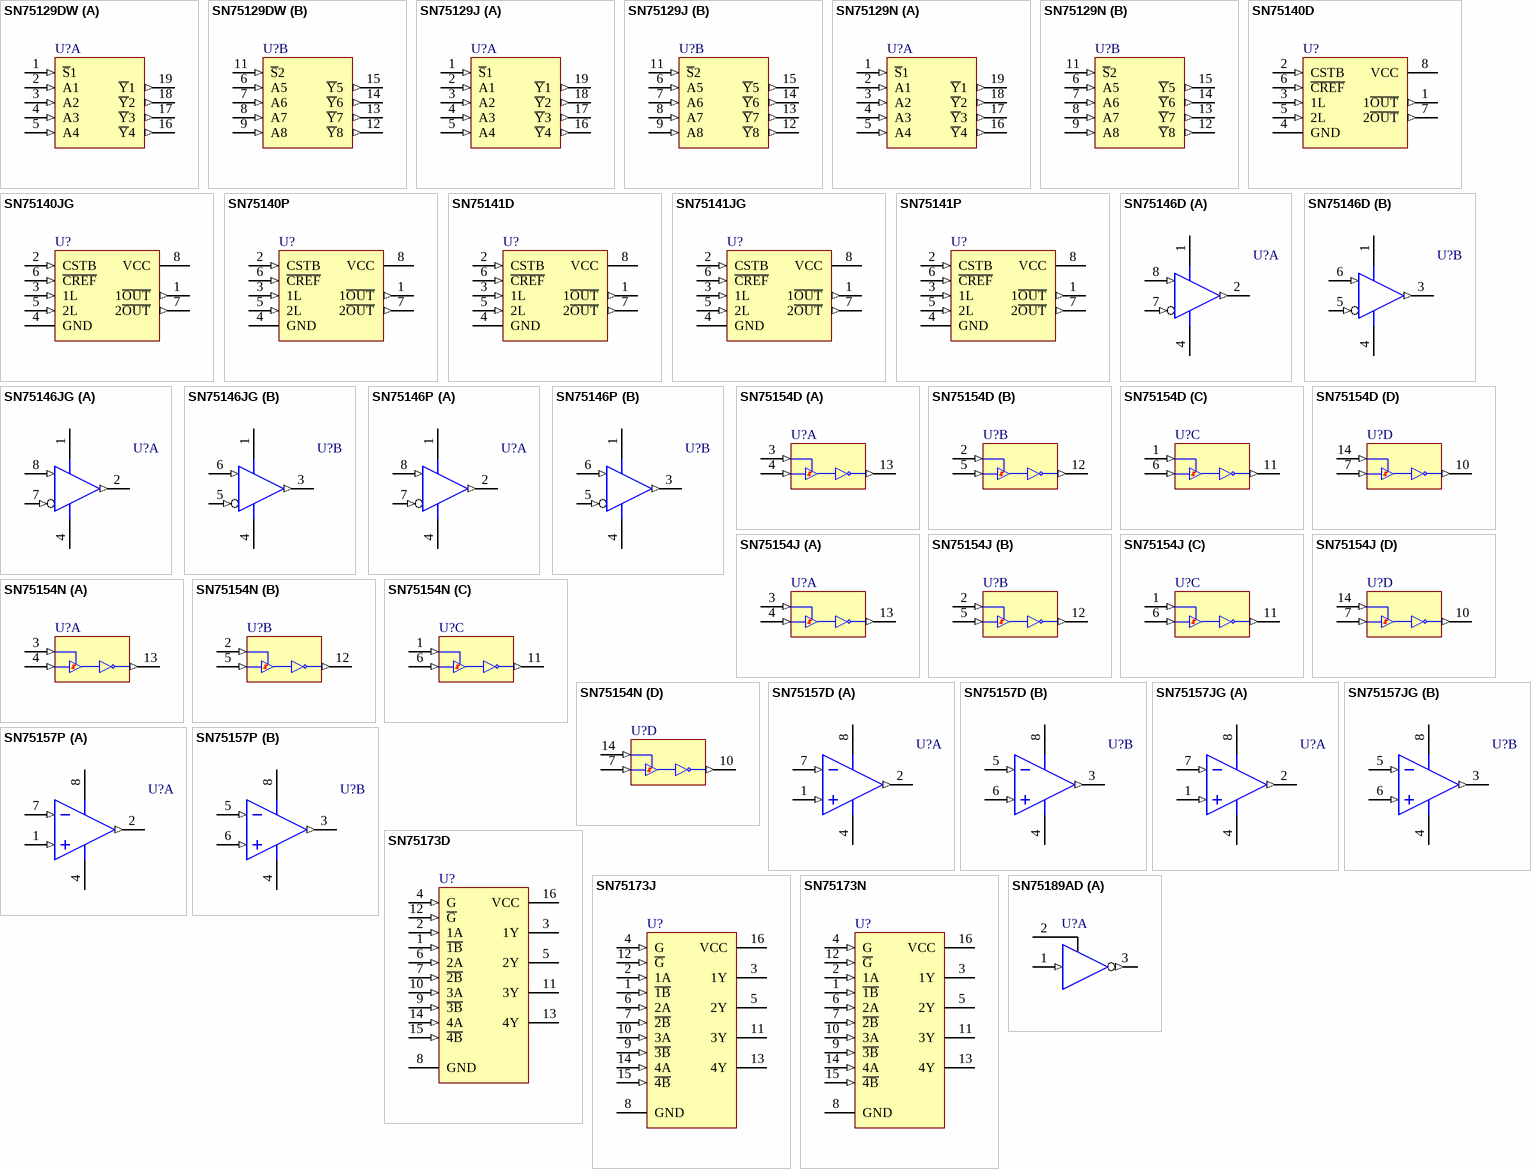
[diagram p4: symbols SN75129DW to SN75189AD]

## SN75129DW
designator U?
Eight-Channel Line Receiver; ComponentAvailability: Obsolete; Published: 15-May-2002; LatestRevisionDate: 13-Apr-2006; LatestRevisionNote: IPC-7351 Footprint Added.; DatasheetVersion: Sep-1986; PackageVersion: Mar-2000; PackageReference: DW020; Publisher: Altium Limited; PackageDescription: 20-Pin Plastic Small Outline Integrated Circuit 1.27 mm Pitch; Code_JEDEC: MS-013; Code_IPC: SOIC127P1030-20; ComponentLink1Description: Manufacturer Link; ComponentLink1URL: http://www.ti.com/; ComponentLink2Description: Datasheet; ComponentLink2URL: http://www-s.ti.com/sc/ds/sn75128.pdf
footprint DW020_N (SOIC, 20-Leads, Body 12.8x7.5mm, Pitch 1.27mm, IPC Medium Density)
footprint DW020_L (SOIC, 20-Leads, Body 12.8x7.5mm, Pitch 1.27mm, IPC High Density)
footprint DW020_M (SOIC, 20-Leads, Body 12.8x7.5mm, Pitch 1.27mm, IPC Low Density)
3D model DW020 (20-Pin Plastic Small Outline Integrated Circuit 1.27 mm Pitch)
pins on every part: 10 GND (power) hidden to GND, 20 VCC (power) hidden to VCC
part A pins: 1 ~{S}1 (in), 2 A1 (in), 3 A2 (in), 4 A3 (in), 5 A4 (in), 16 ~{Y}4 (out), 17 ~{Y}3 (out), 18 ~{Y}2 (out), 19 ~{Y}1 (out)
part B pins: 6 A5 (in), 7 A6 (in), 8 A7 (in), 9 A8 (in), 11 ~{S}2 (in), 12 ~{Y}8 (out), 13 ~{Y}7 (out), 14 ~{Y}6 (out), 15 ~{Y}5 (out)

## SN75129J
designator U?
Eight-Channel Line Receiver; Published: 15-May-2002; LatestRevisionDate: 29-May-2009; LatestRevisionNote: Component Body Added.; DatasheetVersion: Sep-1986; PackageVersion: Jun-1999; PackageReference: J020; Publisher: Altium Limited; PackageDescription: DIP, Ceramic, 20-Pin, Row Spacing 7.62 mm, Pitch 2.54 mm; ComponentLink1Description: Manufacturer Link; ComponentLink1URL: http://www.ti.com/
footprint J020 (DIP, 20-Leads, Row Spacing 7.62mm, Pitch 2.54mm, Body 24.2x6.92mm)
3D model J020 (DIP, Ceramic, 20-Pin, Row Spacing 7.62 mm, Pitch 2.54 mm)
pins on every part: 10 GND (power) hidden to GND, 20 VCC (power) hidden to VCC
part A pins: 1 ~{S}1 (in), 2 A1 (in), 3 A2 (in), 4 A3 (in), 5 A4 (in), 16 ~{Y}4 (out), 17 ~{Y}3 (out), 18 ~{Y}2 (out), 19 ~{Y}1 (out)
part B pins: 6 A5 (in), 7 A6 (in), 8 A7 (in), 9 A8 (in), 11 ~{S}2 (in), 12 ~{Y}8 (out), 13 ~{Y}7 (out), 14 ~{Y}6 (out), 15 ~{Y}5 (out)

## SN75129N
designator U?
Eight-Channel Line Receiver; ComponentAvailability: Obsolete; Published: 15-May-2002; LatestRevisionDate: 29-May-2009; LatestRevisionNote: Component Body Added.; DatasheetVersion: Sep-1986; PackageVersion: Oct-1995; PackageReference: N020; Publisher: Altium Limited; PackageDescription: DIP, 20-Pin, Row Spacing 7.62 mm, Pitch 2.54 mm; ComponentLink1Description: Manufacturer Link; ComponentLink1URL: http://www.ti.com/; ComponentLink2Description: Datasheet; ComponentLink2URL: http://www-s.ti.com/sc/ds/sn75128.pdf
footprint N020 (DIP, 20-Leads, Row Spacing 7.62mm, Pitch 2.54mm, Body 24.33x6.35mm)
3D model J020 (DIP, 20-Pin, Row Spacing 7.62 mm, Pitch 2.54 mm)
pins on every part: 10 GND (power) hidden to GND, 20 VCC (power) hidden to VCC
part A pins: 1 ~{S}1 (in), 2 A1 (in), 3 A2 (in), 4 A3 (in), 5 A4 (in), 16 ~{Y}4 (out), 17 ~{Y}3 (out), 18 ~{Y}2 (out), 19 ~{Y}1 (out)
part B pins: 6 A5 (in), 7 A6 (in), 8 A7 (in), 9 A8 (in), 11 ~{S}2 (in), 12 ~{Y}8 (out), 13 ~{Y}7 (out), 14 ~{Y}6 (out), 15 ~{Y}5 (out)

## SN75140D
designator U?
Dual Line Receiver; ComponentAvailability: Obsolete; Published: 15-May-2002; LatestRevisionDate: 13-Apr-2006; LatestRevisionNote: IPC-7351 Footprint Added.; DatasheetVersion: Oct-1986; PackageVersion: Nov-2006; PackageReference: D008; Publisher: Altium Limited; PackageDescription: 8-Pin Small Outline Integrated Circuit 1.27 mm Pitch; Code_JEDEC: MS-012-AA; Code_IPC: SOIC127P600-8; ComponentLink1Description: Manufacturer Link; ComponentLink1URL: http://www.ti.com/; ComponentLink2Description: Datasheet; ComponentLink2URL: http://www-s.ti.com/sc/ds/sn75140.pdf
footprint D008_N (SOIC, 8-Leads, Body 4.9x3.9mm, Pitch 1.27mm, IPC Medium Density)
footprint D008_L (SOIC, 8-Leads, Body 4.9x3.9mm, Pitch 1.27mm, IPC High Density)
footprint D008_M (SOIC, 8-Leads, Body 4.9x3.9mm, Pitch 1.27mm, IPC Low Density)
3D model D008 (8-Pin Small Outline Integrated Circuit 1.27 mm Pitch)
pins: 1 1~{OUT} (out), 2 CSTB (in), 3 1L (in), 4 GND (power), 5 2L (in), 6 ~{CREF} (in), 7 2~{OUT} (out), 8 VCC (power)

## SN75140JG
designator U?
Dual Line Receiver; ComponentAvailability: Obsolete; Published: 15-May-2002; LatestRevisionDate: 29-May-2009; LatestRevisionNote: Component Body Added.; DatasheetVersion: Oct-1986; PackageVersion: Jan-1995; PackageReference: JG008; Publisher: Altium Limited; PackageDescription: DIP, Ceramic, 8-Pin, Row Spacing 7.62 mm, Pitch 2.54 mm; ComponentLink1Description: Manufacturer Link; ComponentLink1URL: http://www.ti.com/; ComponentLink2Description: Datasheet; ComponentLink2URL: http://www-s.ti.com/sc/ds/sn75140.pdf
footprint JG008 (DIP, 8-Leads, Row Spacing 7.62mm, Pitch 2.54mm, Body 9.58x6.67mm)
3D model JG008 (DIP, Ceramic, 8-Pin, Row Spacing 7.62 mm, Pitch 2.54 mm)
pins: 1 1~{OUT} (out), 2 CSTB (in), 3 1L (in), 4 GND (power), 5 2L (in), 6 ~{CREF} (in), 7 2~{OUT} (out), 8 VCC (power)

## SN75140P
designator U?
Dual Line Receiver; Published: 15-May-2002; LatestRevisionDate: 29-May-2009; LatestRevisionNote: Component Body Added.; DatasheetVersion: Oct-1986; PackageVersion: Jun-1999; PackageReference: P008; Publisher: Altium Limited; PackageDescription: DIP, 8-Pin, Row Spacing 7.62 mm, Pitch 2.54 mm; Code_JEDEC: MO-001-AN; ComponentLink1Description: Manufacturer Link; ComponentLink1URL: http://www.ti.com/; ComponentLink2Description: Datasheet; ComponentLink2URL: http://www-s.ti.com/sc/ds/sn75140.pdf
footprint P008 (DIP, 8-Leads, Row Spacing 7.62mm, Pitch 2.54mm, Body 9.81x6.35mm)
3D model P008 (DIP, 8-Pin, Row Spacing 7.62 mm, Pitch 2.54 mm)
pins: 1 1~{OUT} (out), 2 CSTB (in), 3 1L (in), 4 GND (power), 5 2L (in), 6 ~{CREF} (in), 7 2~{OUT} (out), 8 VCC (power)

## SN75141D
designator U?
Dual Line Receiver; Published: 15-May-2002; LatestRevisionDate: 13-Apr-2006; LatestRevisionNote: IPC-7351 Footprint Added.; DatasheetVersion: Oct-1986; PackageVersion: Nov-2006; PackageReference: D008; Publisher: Altium Limited; PackageDescription: 8-Pin Small Outline Integrated Circuit 1.27 mm Pitch; Code_JEDEC: MS-012-AA; Code_IPC: SOIC127P600-8; ComponentLink1Description: Manufacturer Link; ComponentLink1URL: http://www.ti.com/
footprint D008_N (SOIC, 8-Leads, Body 4.9x3.9mm, Pitch 1.27mm, IPC Medium Density)
footprint D008_L (SOIC, 8-Leads, Body 4.9x3.9mm, Pitch 1.27mm, IPC High Density)
footprint D008_M (SOIC, 8-Leads, Body 4.9x3.9mm, Pitch 1.27mm, IPC Low Density)
3D model D008 (8-Pin Small Outline Integrated Circuit 1.27 mm Pitch)
pins: 1 1~{OUT} (out), 2 CSTB (in), 3 1L (in), 4 GND (power), 5 2L (in), 6 ~{CREF} (in), 7 2~{OUT} (out), 8 VCC (power)

## SN75141JG
designator U?
Dual Line Receiver; Published: 15-May-2002; LatestRevisionDate: 29-May-2009; LatestRevisionNote: Component Body Added.; DatasheetVersion: Oct-1986; PackageVersion: Jan-1995; PackageReference: JG008; Publisher: Altium Limited; PackageDescription: DIP, Ceramic, 8-Pin, Row Spacing 7.62 mm, Pitch 2.54 mm; ComponentLink1Description: Manufacturer Link; ComponentLink1URL: http://www.ti.com/
footprint JG008 (DIP, 8-Leads, Row Spacing 7.62mm, Pitch 2.54mm, Body 9.58x6.67mm)
3D model JG008 (DIP, Ceramic, 8-Pin, Row Spacing 7.62 mm, Pitch 2.54 mm)
pins: 1 1~{OUT} (out), 2 CSTB (in), 3 1L (in), 4 GND (power), 5 2L (in), 6 ~{CREF} (in), 7 2~{OUT} (out), 8 VCC (power)

## SN75141P
designator U?
Dual Line Receiver; ComponentAvailability: Obsolete; Published: 15-May-2002; LatestRevisionDate: 29-May-2009; LatestRevisionNote: Component Body Added.; DatasheetVersion: Oct-1986; PackageVersion: Jun-1999; PackageReference: P008; Publisher: Altium Limited; PackageDescription: DIP, 8-Pin, Row Spacing 7.62 mm, Pitch 2.54 mm; Code_JEDEC: MO-001-AN; ComponentLink1Description: Manufacturer Link; ComponentLink1URL: http://www.ti.com/; ComponentLink2Description: URL Link1; ComponentLink2URL: http://focus.ti.com/docs/prod/folders/print/sn75141.html
footprint P008 (DIP, 8-Leads, Row Spacing 7.62mm, Pitch 2.54mm, Body 9.81x6.35mm)
3D model P008 (DIP, 8-Pin, Row Spacing 7.62 mm, Pitch 2.54 mm)
pins: 1 1~{OUT} (out), 2 CSTB (in), 3 1L (in), 4 GND (power), 5 2L (in), 6 ~{CREF} (in), 7 2~{OUT} (out), 8 VCC (power)

## SN75146D
designator U?
Dual Differential Line Receiver; Published: 15-May-2002; LatestRevisionDate: 13-Apr-2006; LatestRevisionNote: IPC-7351 Footprint Added.; DatasheetVersion: Feb-1986; PackageVersion: Nov-2006; PackageReference: D008; Publisher: Altium Limited; PackageDescription: 8-Pin Small Outline Integrated Circuit 1.27 mm Pitch; Code_JEDEC: MS-012-AA; Code_IPC: SOIC127P600-8; ComponentLink1Description: Manufacturer Link; ComponentLink1URL: http://www.ti.com/; ComponentLink2Description: Datasheet; ComponentLink2URL: http://www-s.ti.com/sc/ds/sn75146.pdf
footprint D008_N (SOIC, 8-Leads, Body 4.9x3.9mm, Pitch 1.27mm, IPC Medium Density)
footprint D008_L (SOIC, 8-Leads, Body 4.9x3.9mm, Pitch 1.27mm, IPC High Density)
footprint D008_M (SOIC, 8-Leads, Body 4.9x3.9mm, Pitch 1.27mm, IPC Low Density)
3D model D008 (8-Pin Small Outline Integrated Circuit 1.27 mm Pitch)
pins on every part: 1 VCC (power), 4 GND (power)
part A pins: 2 1OUT (out), 7 1IN- (in), 8 1IN+ (in)
part B pins: 3 2OUT (out), 5 2IN- (in), 6 2IN+ (in)

## SN75146JG
designator U?
Dual Differential Line Receiver; Published: 15-May-2002; LatestRevisionDate: 29-May-2009; LatestRevisionNote: Component Body Added.; DatasheetVersion: Feb-1986; PackageVersion: Jan-1995; PackageReference: JG008; Publisher: Altium Limited; PackageDescription: DIP, Ceramic, 8-Pin, Row Spacing 7.62 mm, Pitch 2.54 mm; ComponentLink1Description: Manufacturer Link; ComponentLink1URL: http://www.ti.com/
footprint JG008 (DIP, 8-Leads, Row Spacing 7.62mm, Pitch 2.54mm, Body 9.58x6.67mm)
3D model JG008 (DIP, Ceramic, 8-Pin, Row Spacing 7.62 mm, Pitch 2.54 mm)
pins on every part: 1 VCC (power), 4 GND (power)
part A pins: 2 1OUT (out), 7 1IN- (in), 8 1IN+ (in)
part B pins: 3 2OUT (out), 5 2IN- (in), 6 2IN+ (in)